# Altium footprint library TEP_243-Altium_Library.PcbLib: 103 footprints (part 4 of 7)
Each footprint in its own frame and in the unit in brackets; x right, y up, seen from the top. Pads: shape width x height; smd on the part's side, far side on the other; paste and mask are expansions set on the pad; w line width, h text height; cw(c..) or ccw(c..) is an arc to the next point about the centre after c.
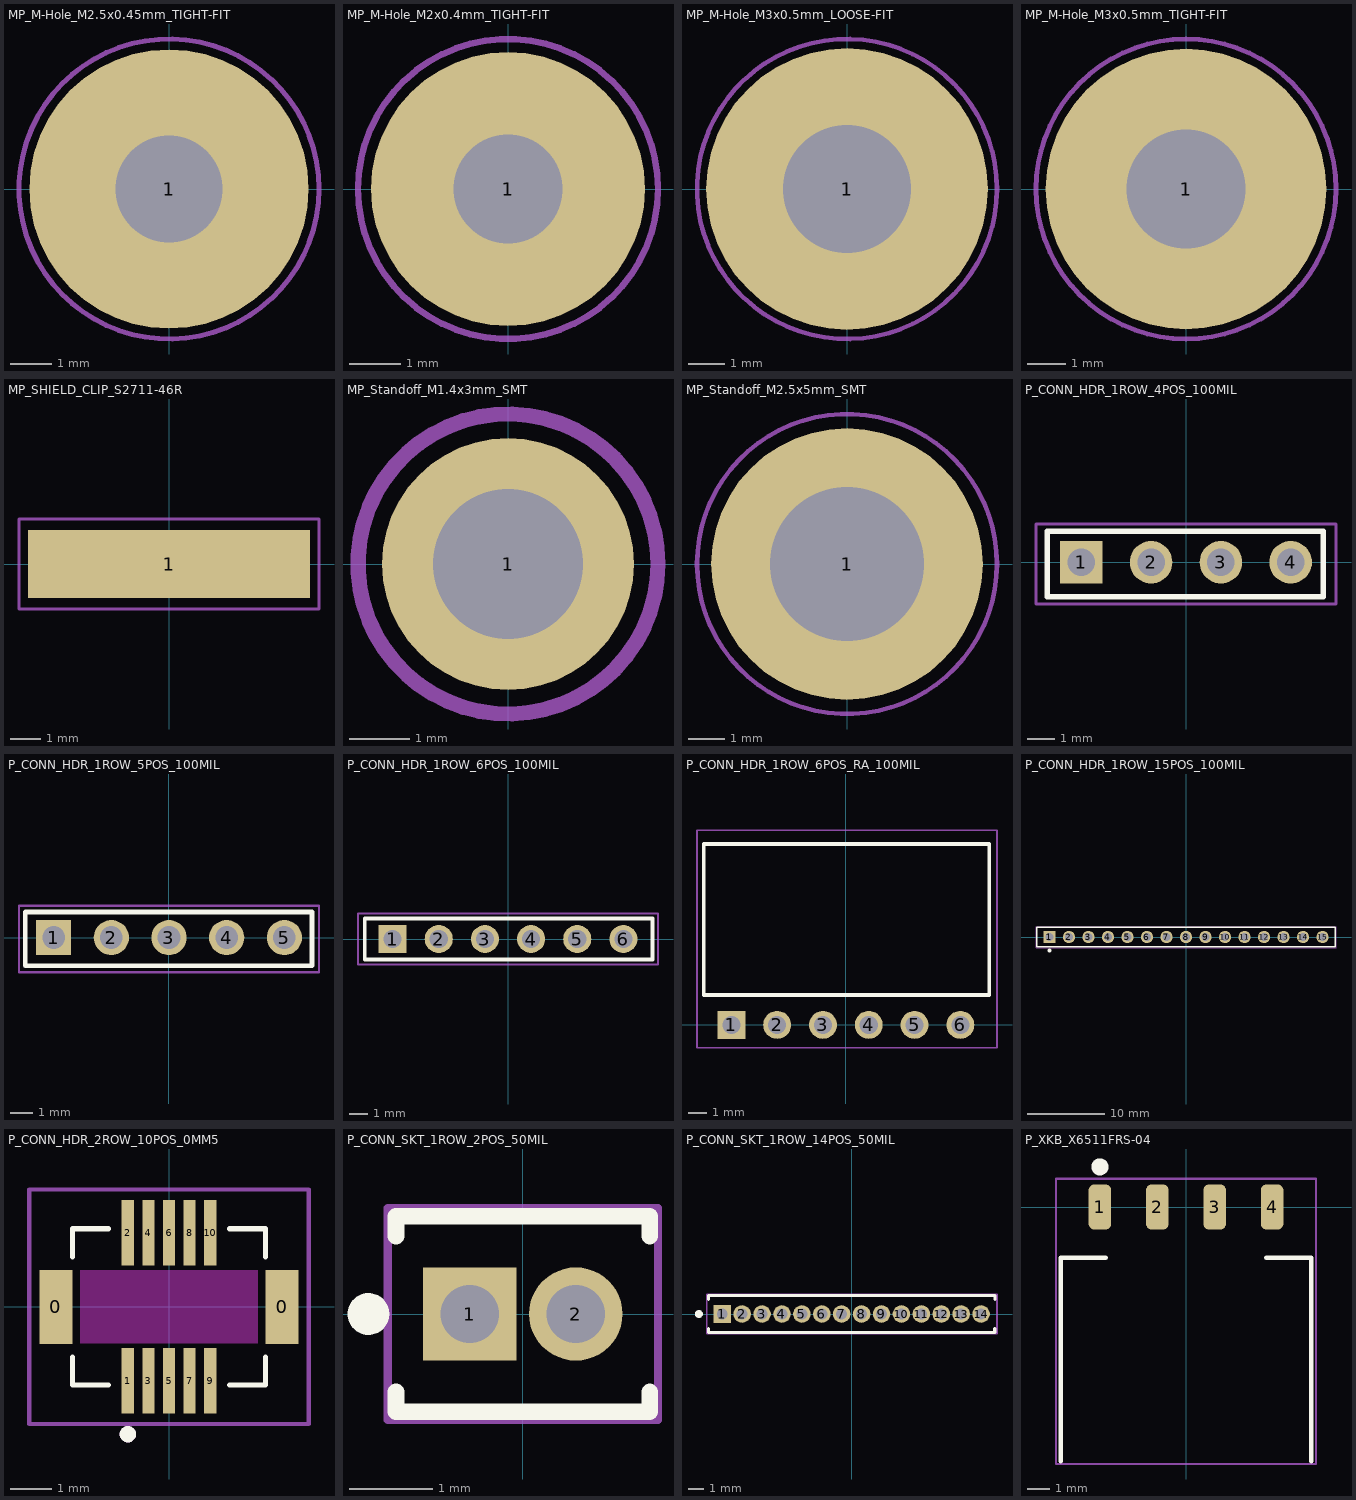
[diagram p3: the footprints below, top view; thin cyan lines are the x and y axes]

## MP_M-Hole_M2.5x0.45mm_TIGHT-FIT [mm] "Monting Hole M2.5x0.45mm Tight Fit"
height 0.01
pads (1):
  round 6.8 hole 2.6 paste-2539.97: 1(0,0)
Top Courtyard:
  circle w0.125: c0,0 r3.65

## MP_M-Hole_M2x0.4mm_TIGHT-FIT [mm] "Monting Hole M2x0.4mm Tight Fit"
height 0.01
pads (1):
  round 5.3 hole 2.1 paste-2539.97: 1(0,0)
Top Courtyard:
  circle w0.125: c0,0 r2.9

## MP_M-Hole_M3x0.5mm_LOOSE-FIT [mm] "Monting Hole M3x0.5mm Loose Fit"
height 0.01
pads (1):
  round 7.7 hole 3.5 paste-2539.97: 1(0,0)
Top Courtyard:
  circle w0.125: c0,0 r4.1

## MP_M-Hole_M3x0.5mm_TIGHT-FIT [mm] "Monting Hole M3x0.5mm TIGHT Fit"
height 0.01
pads (1):
  round 7.3 hole 3.1 paste-2539.97: 1(0,0)
Top Courtyard:
  circle w0.125: c0,0 r3.9

## MP_SHIELD_CLIP_S2711-46R [mm] "Shield Clip Midi SMT"
height 3.55
pads (1):
  rect 9.4x2.28 smd paste-0.5: 1(0,0)
Top Courtyard:
  lines w0.1: -5,-1.5 -5,1.5 5,1.5 5,-1.5 -5,-1.5
3D body "s2711-46r.stp": height 3.45, standoff 0, extent -4.494,-1.15 4.494,1.13

## MP_Standoff_M1.4x3mm_SMT [mm] "Spacer SMT 3mm M1.4"
height 5
pads (1):
  round 4.2 hole 2.5 paste-2539.97: 1(0,0)
Top Paste:
  lines w0.8: -1.694,-0.148 cw(c0,0) -1.694,0.148 ; -1.302,-1.093 ccw(c0,0) -1.093,-1.302 ; -1.302,1.093 cw(c0,0) -1.093,1.302 ; -0.148,-1.694 ccw(c0,0) 0.148,-1.694 ; -0.148,1.694 cw(c0,0) 0.148,1.694 ; 1.093,-1.302 ccw(c0,0) 1.302,-1.093 ; 1.093,1.302 cw(c0,0) 1.302,1.093 ; 1.694,-0.148 ccw(c0,0) 1.694,0.148
Top Courtyard:
  circle w0.254: c0,0 r2.5
3D body: height 0, standoff -1.5, extent -1.25,-1.25 1.25,1.25
3D body: height 3, standoff 0, extent -2.1,-2.1 2.1,2.1
3D body: height 3.1, standoff -1.6, extent -0.7,-0.7 0.7,0.7

## MP_Standoff_M2.5x5mm_SMT [mm] "Spacer SMT 5mm M2.5"
height 5
pads (1):
  round 7.5 hole 4.26 paste-2539.97: 1(0,0)
Top Paste:
  lines w1.5: -2.631,-0.958 ccw(c0,0) -0.958,-2.631 ; -2.631,0.958 cw(c0,0) -0.958,2.631 ; 0.958,-2.631 ccw(c0,0) 2.631,-0.958 ; 0.958,2.631 cw(c0,0) 2.631,0.958
Top Courtyard:
  circle w0.125: c0,0 r4.142
3D body: height 5, standoff 0, extent -2.996,-2.996 2.996,2.996

## P_CONN_HDR_1ROW_4POS_100MIL [mm] "Header, 1x4 Pins, 2.54mm Pitch"
pads (4):
  rect 1.55x1.55 hole 1: 1(-3.81,0)
  round 1.55 hole 1: 2(-1.27,0) 3(1.27,0) 4(3.81,0)
Top Overlay:
  lines w0.2: -5.06,-1.25 5,-1.25 5,1.125 -5.06,1.125 -5.06,-1.25
Top Courtyard:
  lines w0.1: -5.461,-1.524 5.461,-1.524 5.461,1.397 -5.461,1.397 -5.461,-1.524
Top Designator:
  text ".Designator" at 0,0.188 h1

## P_CONN_HDR_1ROW_5POS_100MIL [mm] "Header, 1x5 Pins, 2.54mm Pitch"
pads (5):
  rect 1.55x1.55 hole 1: 1(-5.08,0)
  round 1.55 hole 1: 2(-2.54,0) 3(0,0) 4(2.54,0) 5(5.08,0)
Top Overlay:
  lines w0.2: -6.33,-1.25 6.295,-1.25 6.295,1.125 -6.33,1.125 -6.33,-1.25
Top Courtyard:
  lines w0.1: -6.604,-1.524 -6.604,1.397 6.604,1.397 6.604,-1.524 -6.604,-1.524
Top Designator:
  text ".Designator" at 0,0.188 h1

## P_CONN_HDR_1ROW_6POS_100MIL [mm] "Header, 1x6 Pins, 2.54mm Pitch"
pads (6):
  rect 1.55x1.55 hole 1: 1(-6.35,0)
  round 1.55 hole 1: 2(-3.81,0) 3(-1.27,0) 4(1.27,0) 5(3.81,0) 6(6.35,0)
Top Overlay:
  lines w0.2: -7.874,-1.125 7.95,-1.125 7.95,1.125 -7.874,1.125 -7.874,-1.125
Top Courtyard:
  lines w0.1: -8.255,-1.397 8.255,-1.397 8.255,1.397 -8.255,1.397 -8.255,-1.397
Top Designator:
  text ".Designator" at 0,0.188 h1

## P_CONN_HDR_1ROW_6POS_RA_100MIL [mm] "Header, 1x6 Pins, Right Angle, 2.54mm Pitch, Female"
pads (6):
  rect 1.55x1.55 hole 1: 1(-6.35,0)
  round 1.55 hole 1: 2(-3.81,0) 3(-1.27,0) 4(1.27,0) 5(3.81,0) 6(6.35,0)
Top Overlay:
  lines w0.2: -7.874,1.654 7.95,1.654 7.95,10.033 -7.874,10.033 -7.874,1.654
Top Courtyard:
  lines w0.1: -8.255,-1.27 8.382,-1.27 8.382,10.795 -8.255,10.795 -8.255,-1.27
Top Designator:
  text ".Designator" at 0,0.188 h1
3D body "SSW-106-02-T-S-RA.stp": height 2.46, standoff -2.48, extent -7.85,-0.3 7.898,9.936

## P_CONN_HDR_1ROW_15POS_100MIL [mm] "2.54mm Single Row 15Pin, TH, Female Headers"
pads (15):
  rect 1.59x1.59 hole 1.04 paste-2539.97 mask+0: 1(-17.78,0)
  round 1.59 hole 1.04 paste-2539.97 mask+0: 2(-15.24,0) 3(-12.7,0) 4(-10.16,0) 5(-7.62,0) 6(-5.08,0) 7(-2.54,0) 8(0,0) 9(2.54,0) 10(5.08,0) 11(7.62,0) 12(10.16,0) 13(12.7,0) 14(15.24,0) 15(17.78,0)
Top Overlay:
  circle w0.25: c-17.78,-1.75 r0.125
  lines w0.2: -19.43,-1.27 -19.43,1.27 19.43,1.27 19.43,-1.27 -19.43,-1.27
Top Courtyard:
  lines w0.1: -19.53,-1.37 -19.53,1.37 19.53,1.37 19.53,-1.37 -19.53,-1.37
Top Designator:
  text ".Designator" at -2.878,-0.214 h1.5
3D body "Conn_Samtec_SSW-115-01-T-S_eec.STEP": height 0.25, standoff 0, extent -19.53,-1.37 19.53,1.37

## P_CONN_HDR_2ROW_10POS_0MM5 [mm] "CONN HIROSE DF12NB"
pads (12):
  rect 0.8x1.8 smd: 0(-2.75,0) 0(2.75,0)
  rect 0.3x1.6 smd paste-2 mask+0.05: 1(-1,-1.8) 2(-1,1.8) 3(-0.5,-1.8) 4(-0.5,1.8) 5(0,-1.8) 6(0,1.8) 7(0.5,-1.8) 8(0.5,1.8) 9(1,-1.8) 10(1,1.8)
Top Layer keep-out:
  region: 2.159,-0.889 -2.159,-0.889 -2.159,0.889 2.159,0.889
Top Overlay:
  circle w0.2: c-1,-3.1 r0.1
  lines w0.127: -2.35,-1.22 -2.35,-1.9 -1.47,-1.9 ; -2.35,1.22 -2.35,1.9 -1.47,1.9 ; 1.47,-1.9 2.35,-1.9 2.35,-1.22 ; 1.47,1.9 2.35,1.9 2.35,1.22
Top Paste:
  region: 0.14,1.4 -0.14,1.4 -0.14,2.6 0.14,2.6
  region: 0.64,1.4 0.36,1.4 0.36,2.6 0.64,2.6
  region: 1.14,1.4 0.86,1.4 0.86,2.6 1.14,2.6
  region: -0.36,1.4 -0.64,1.4 -0.64,2.6 -0.36,2.6
  region: -0.86,1.4 -1.14,1.4 -1.14,2.6 -0.86,2.6
  region: 0.14,-2.6 -0.14,-2.6 -0.14,-1.4 0.14,-1.4
  region: 0.64,-2.6 0.36,-2.6 0.36,-1.4 0.64,-1.4
  region: 1.14,-2.6 0.86,-2.6 0.86,-1.4 1.14,-1.4
  region: -0.36,-2.6 -0.64,-2.6 -0.64,-1.4 -0.36,-1.4
  region: -0.86,-2.6 -1.14,-2.6 -1.14,-1.4 -0.86,-1.4
Top Courtyard:
  lines w0.1: -3.4,-2.85 -3.4,2.85 3.4,2.85 3.4,-2.85 -3.4,-2.85
Top Designator:
  text ".Designator" at 0,0.188 h1
Top 3D Body:
  circle w0.2: c-1,-3.1 r0.1
3D body "DF12NB(3.0)-10DP-0.5V(51).STEP": height 2.3, standoff 0, extent -2.8,-2.35 2.8,2.25

## P_CONN_SKT_1ROW_2POS_50MIL [mm]
height 8.58
pads (2):
  rect 1.12x1.12 hole 0.7 paste-2539.97 mask+0: 1(-0.635,0)
  round 1.12 hole 0.7 paste-2539.97 mask+0: 2(0.635,0)
Top Overlay:
  circle w0.25: c-1.85,0 r0.125
  lines w0.2: -1.52,-0.935 -1.52,-1.17 1.52,-1.17 1.52,-0.935 ; -1.52,0.935 -1.52,1.17 1.52,1.17 1.52,0.935
Top Courtyard:
  lines w0.1: -1.62,-1.27 1.62,-1.27 1.62,1.27 -1.62,1.27 -1.62,-1.27
Top Designator:
  text ".Designator" at 0,0.188 h1
3D body "SLM-102-01-G-S.stp": height 4.57, standoff -2.92, extent -1.384,-1.27 1.384,1.27

## P_CONN_SKT_1ROW_14POS_50MIL [mm]
height 8.58
pads (14):
  rect 1.12x1.12 hole 0.7 paste-2539.97 mask+0: 1(-8.255,0)
  round 1.12 hole 0.7 paste-2539.97 mask+0: 2(-6.985,0) 3(-5.715,0) 4(-4.445,0) 5(-3.175,0) 6(-1.905,0) 7(-0.635,0) 8(0.635,0) 9(1.905,0) 10(3.175,0) 11(4.445,0) 12(5.715,0) 13(6.985,0) 14(8.255,0)
Top Overlay:
  circle w0.25: c-9.74,0 r0.125
  lines w0.2: -9.14,-0.935 -9.14,-1.17 9.123,-1.17 9.123,-0.935 ; -9.14,0.935 -9.14,1.17 9.137,1.17 9.137,0.935
Top Courtyard:
  lines w0.1: -9.24,-1.27 9.27,-1.27 9.27,1.27 -9.24,1.27 -9.24,-1.27
Top Designator:
  text ".Designator" at -2.25,0.25 h1
3D body "SLM-114-01-G-S.stp": height 4.57, standoff -2.92, extent -9.004,-1.27 9.004,1.27

## P_XKB_X6511FRS-04 [mm] "2.54mm Single Row 4Pin, Surface Mount, Right Angle Female Headers, 8.5mm"
pads (4):
  rrect50% 1x2 smd mask+0: 1(-3.81,0) 2(-1.27,0) 3(1.27,0) 4(3.81,0)
Top Overlay:
  circle w0.5: c-3.81,1.778 r0.127
  lines w0.2: -5.55,-11.25 -5.55,-2.25 -3.55,-2.25 ; 3.55,-2.25 5.55,-2.25 5.55,-11.25
Top Courtyard:
  lines w0.1: -5.75,-11.375 -5.75,1.25 5.75,1.25 5.75,-11.375 -5.75,-11.375
Top Designator:
  text ".Designator" at -3.114,-3.837 h1.5
3D body "M20-7910442_asm.stp": height 2.5, standoff 0, extent -5.205,-11.25 5.205,0.648